# EAGLE library part INA219 (library misc)
Zerø-Drift, Bi-Directional CURRENT/POWER MONITOR with I2C™ Interface
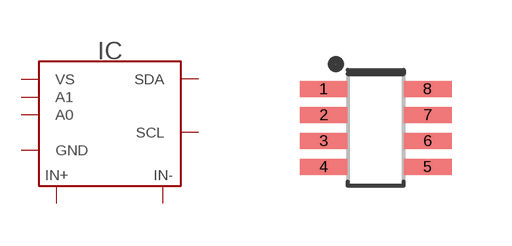
[diagram p42: symbol with the pads of SOT23-8; footprint SOT23-8]

Designator prefix IC

## INA219A (MANF: Texas Instruments; MANF#: INA219AIDCN)  [SOT23-8]
1  IN+
2  IN-
3  GND
4  VS
5  SCL
6  SDA
7  A0
8  A1

## Footprint SOT23-8 (pad centres in mm)
3D model <https://www.3dcontentcentral.com/secure/download-model.aspx?catalogid=171&id=1608809>
smd 1.2 x 0.4: 1 -1.3,0.975; 2 -1.3,0.325; 3 -1.3,-0.325; 4 -1.3,-0.975; 5 1.3,-0.975; 6 1.3,-0.325; 7 1.3,0.325; 8 1.3,0.975